# Altium schematic symbol library Connectors.SchLib: 70 symbols
Pins are listed as number, name and electrical type; pins without a type are passive.

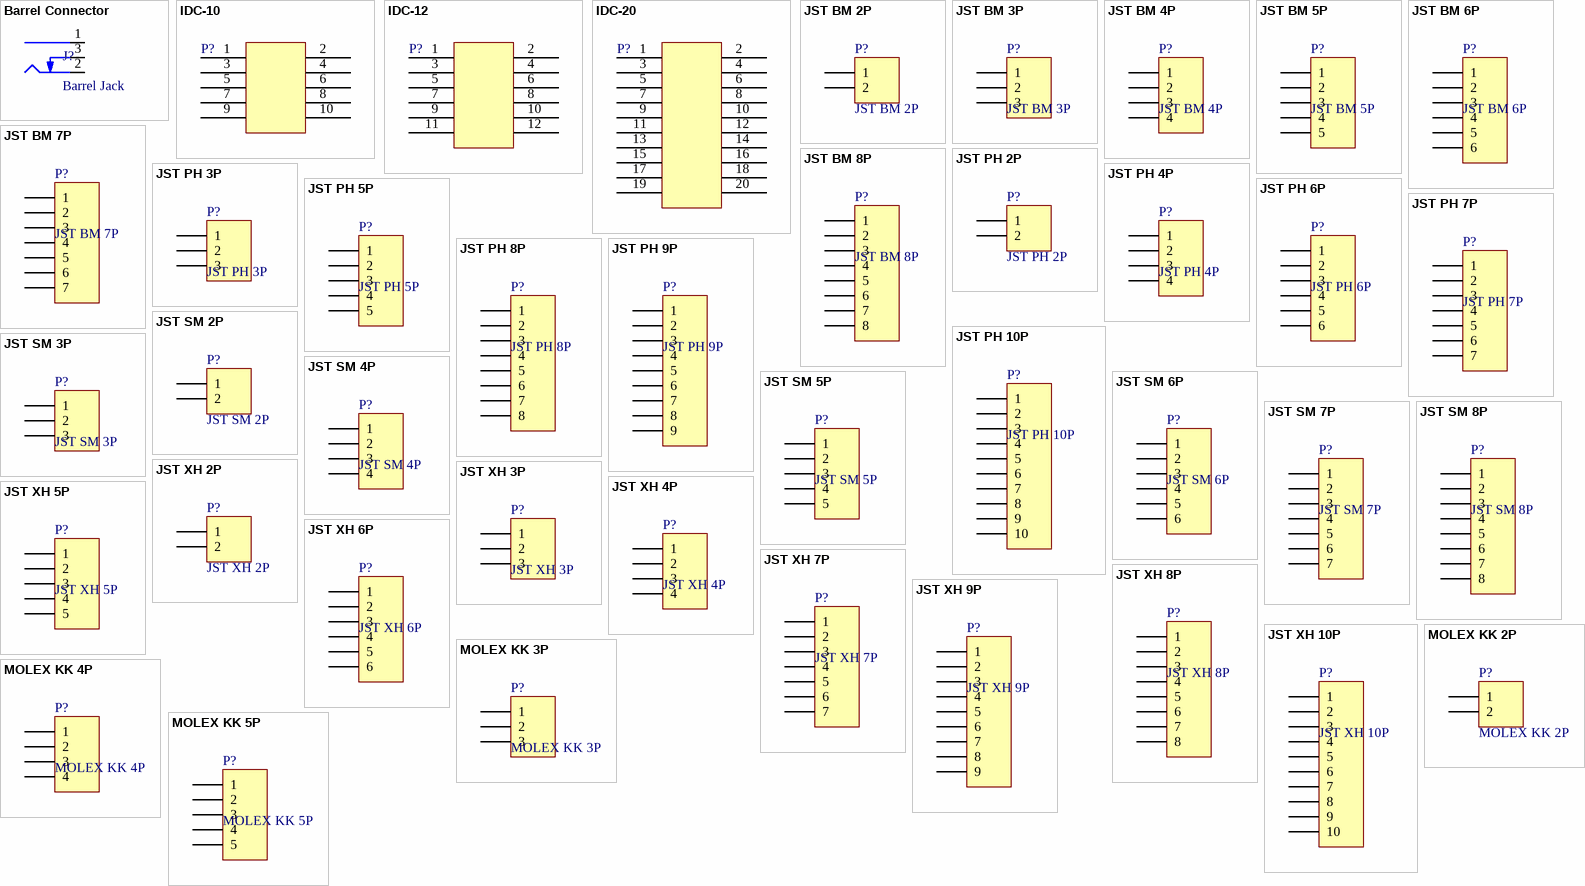
[diagram p0: symbols Barrel Connector to MOLEX KK 5P]

## Barrel Connector
designator J?, comment Barrel Jack
DC Barrel Jack W/ Switch 2.0x5.5
footprint CUI PJ-102AH (DC Barrel Jack W/ Switch 2.0x5.5)
pins: 1 Centre, 2 Outer, 3 SW

## IDC-10
designator P?  (value not drawn)
Double row pins
footprint IDC-10
signal-integrity model Connector
footprint IDC-10R
pins: 1 "5v", 2 "5v", 3 "Digital 22", 4 "Digital 23", 5 "Digital 24", 6 "Digital 25", 7 "Digital 26", 8 "Digital 27", 9 "Digital 28", 10 "Digital 29"

## IDC-12
designator P?  (value not drawn)
Double row pins
footprint IDC-12
signal-integrity model Connector
footprint IDC-12R
pins: 1 "5v", 2 "5v", 3 "Digital 22", 4 "Digital 23", 5 "Digital 24", 6 "Digital 25", 7 "Digital 26", 8 "Digital 27", 9 "Digital 28", 10 "Digital 29", 11 "Digital 30", 12 "Digital 31"

## IDC-20
designator P?  (value not drawn)
Double row pins
signal-integrity model Connector
footprint IDC-20
pins: 1 "5v", 2 "5v", 3 "Digital 22", 4 "Digital 23", 5 "Digital 24", 6 "Digital 25", 7 "Digital 26", 8 "Digital 27", 9 "Digital 28", 10 "Digital 29", 11 "Digital 30", 12 "Digital 31", 13 "Digital 32", 14 "Digital 33", 15 "Digital 34", 16 "Digital 35", 17 "Digital 36", 18 "Digital 37", 19 "Digital 38", 20 "Digital 39"

## JST BM 2P
designator P?
signal-integrity model Connector
footprint JST BM 2P (JST PA Series 2mm pitch, top entry connector)
pins: 1, 2

## JST BM 3P
designator P?
signal-integrity model Connector
footprint JST BM 3P (JST PA Series 2mm pitch, top entry connector)
pins: 1, 2, 3

## JST BM 4P
designator P?
signal-integrity model Connector
footprint JST BM 4P (JST PA Series 2mm pitch, top entry connector)
pins: 1, 2, 3, 4

## JST BM 5P
designator P?
signal-integrity model Connector
footprint JST BM 5P (JST PA Series 2mm pitch, top entry connector)
pins: 1, 2, 3, 4, 5

## JST BM 6P
designator P?
signal-integrity model Connector
footprint JST BM 6P (JST PA Series 2mm pitch, top entry connector)
pins: 1, 2, 3, 4, 5, 6

## JST BM 7P
designator P?
signal-integrity model Connector
footprint JST BM 7P (JST PA Series 2mm pitch, top entry connector)
pins: 1, 2, 3, 4, 5, 6, 7

## JST BM 8P
designator P?
signal-integrity model Connector
footprint JST BM 8P (JST PA Series 2mm pitch, top entry connector)
pins: 1, 2, 3, 4, 5, 6, 7, 8

## JST PH 2P
designator P?
signal-integrity model Connector
footprint JST PH 2P
pins: 1, 2

## JST PH 3P
designator P?
signal-integrity model Connector
footprint JST PH 3P
pins: 1, 2, 3

## JST PH 4P
designator P?
signal-integrity model Connector
footprint JST PH 4P
pins: 1, 2, 3, 4

## JST PH 5P
designator P?
signal-integrity model Connector
footprint JST PH 5P
pins: 1, 2, 3, 4, 5

## JST PH 6P
designator P?
signal-integrity model Connector
footprint JST PH 6P
pins: 1, 2, 3, 4, 5, 6

## JST PH 7P
designator P?
signal-integrity model Connector
footprint JST PH 7P
pins: 1, 2, 3, 4, 5, 6, 7

## JST PH 8P
designator P?
signal-integrity model Connector
footprint JST PH 8P
pins: 1, 2, 3, 4, 5, 6, 7, 8

## JST PH 9P
designator P?
signal-integrity model Connector
footprint JST PH 9P
pins: 1, 2, 3, 4, 5, 6, 7, 8, 9

## JST PH 10P
designator P?
signal-integrity model Connector
footprint JST PH 10P
pins: 1, 2, 3, 4, 5, 6, 7, 8, 9, 10

## JST SM 2P
designator P?
signal-integrity model Connector
footprint JST SM 2P (JST PA Series 2mm pitch, side entry connector)
pins: 1, 2

## JST SM 3P
designator P?
signal-integrity model Connector
footprint JST SM 3P (JST PA Series 2mm pitch, side entry connector)
pins: 1, 2, 3

## JST SM 4P
designator P?
signal-integrity model Connector
footprint JST SM 4P (JST PA Series 2mm pitch, side entry connector)
pins: 1, 2, 3, 4

## JST SM 5P
designator P?
signal-integrity model Connector
footprint JST SM 5P (JST PA Series 2mm pitch, side entry connector)
pins: 1, 2, 3, 4, 5

## JST SM 6P
designator P?
signal-integrity model Connector
footprint JST SM 6P (JST PA Series 2mm pitch, side entry connector)
pins: 1, 2, 3, 4, 5, 6

## JST SM 7P
designator P?
signal-integrity model Connector
footprint JST SM 7P (JST PA Series 2mm pitch, side entry connector)
pins: 1, 2, 3, 4, 5, 6, 7

## JST SM 8P
designator P?
signal-integrity model Connector
footprint JST SM 8P (JST PA Series 2mm pitch, side entry connector)
pins: 1, 2, 3, 4, 5, 6, 7, 8

## JST XH 2P
designator P?
signal-integrity model Connector
footprint JST XH 2P
pins: 1, 2

## JST XH 3P
designator P?
signal-integrity model Connector
footprint JST XH 3P
pins: 1, 2, 3

## JST XH 4P
designator P?
signal-integrity model Connector
footprint JST XH 4P
pins: 1, 2, 3, 4

## JST XH 5P
designator P?
signal-integrity model Connector
footprint JST XH 5P
pins: 1, 2, 3, 4, 5

## JST XH 6P
designator P?
signal-integrity model Connector
footprint JST XH 6P
pins: 1, 2, 3, 4, 5, 6

## JST XH 7P
designator P?
signal-integrity model Connector
footprint JST XH 7P
pins: 1, 2, 3, 4, 5, 6, 7

## JST XH 8P
designator P?
signal-integrity model Connector
footprint JST XH 8P
pins: 1, 2, 3, 4, 5, 6, 7, 8

## JST XH 9P
designator P?
signal-integrity model Connector
footprint JST XH 9P
pins: 1, 2, 3, 4, 5, 6, 7, 8, 9

## JST XH 10P
designator P?
signal-integrity model Connector
footprint JST XH 10P
pins: 1, 2, 3, 4, 5, 6, 7, 8, 9, 10

## MOLEX KK 2P
designator P?
signal-integrity model Connector
footprint MOLEX KK 2P
pins: 1, 2

## MOLEX KK 3P
designator P?
signal-integrity model Connector
footprint MOLEX KK 3P
pins: 1, 2, 3

## MOLEX KK 4P
designator P?
signal-integrity model Connector
footprint MOLEX KK 4P
pins: 1, 2, 3, 4

## MOLEX KK 5P
designator P?
signal-integrity model Connector
footprint MOLEX KK 5P
pins: 1, 2, 3, 4, 5

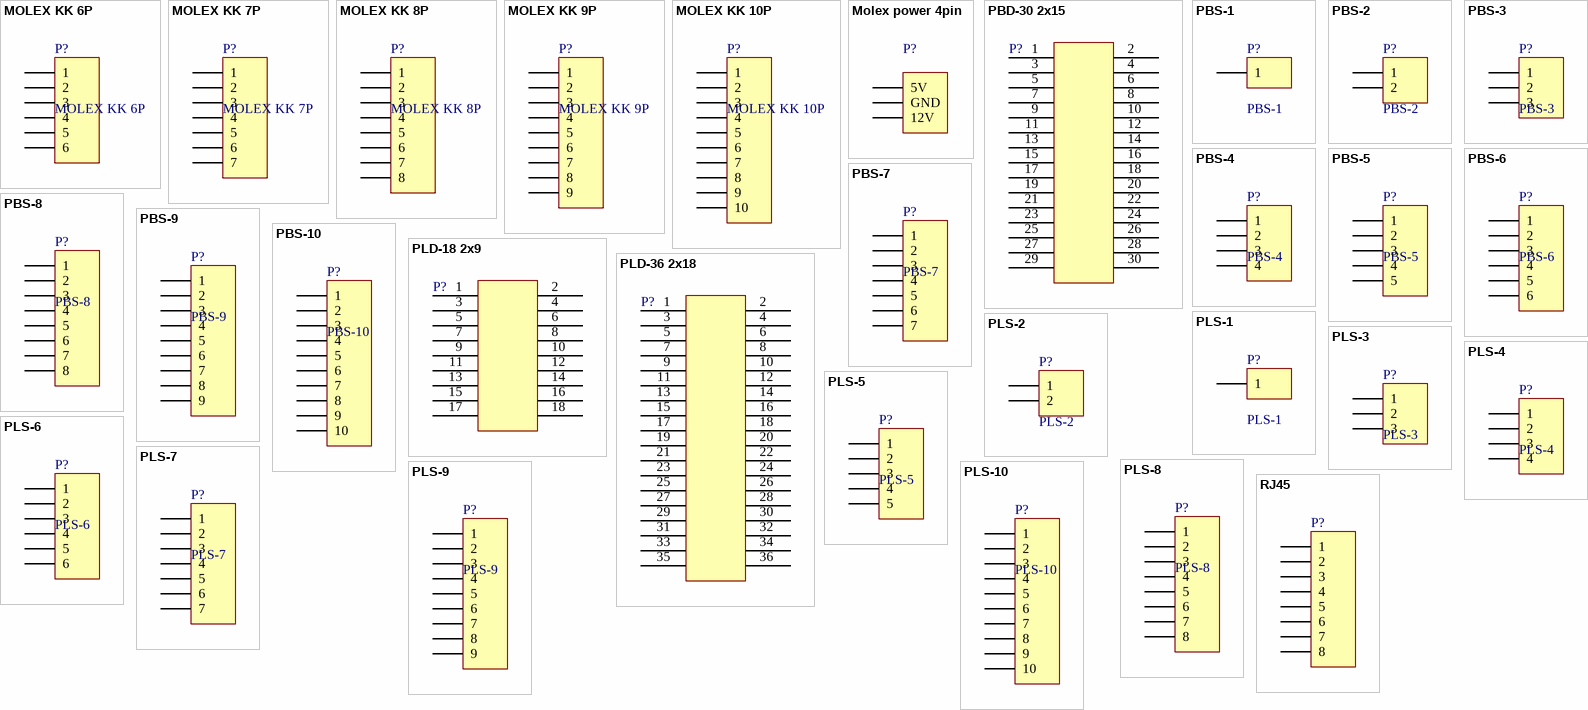
[diagram p1: symbols MOLEX KK 6P to RJ45]

## MOLEX KK 6P
designator P?
signal-integrity model Connector
footprint MOLEX KK 6P
pins: 1, 2, 3, 4, 5, 6

## MOLEX KK 7P
designator P?
signal-integrity model Connector
footprint MOLEX KK 7P
pins: 1, 2, 3, 4, 5, 6, 7

## MOLEX KK 8P
designator P?
signal-integrity model Connector
footprint MOLEX KK 8P
pins: 1, 2, 3, 4, 5, 6, 7, 8

## MOLEX KK 9P
designator P?
signal-integrity model Connector
footprint MOLEX KK 9P
pins: 1, 2, 3, 4, 5, 6, 7, 8, 9

## MOLEX KK 10P
designator P?
signal-integrity model Connector
footprint MOLEX KK 10P
pins: 1, 2, 3, 4, 5, 6, 7, 8, 9, 10

## Molex power 4pin
designator P?, comment Molex IDE power  (value not drawn)
from HDD
footprint molex 4pin
signal-integrity model Connector
pins: 5V, 12V, GND

## PBD-30 2x15
designator P?  (value not drawn)
Double row pins
signal-integrity model Connector
footprint PBD-30 2x15
pins: 1 "5v", 2 "5v", 3 "Digital 22", 4 "Digital 23", 5 "Digital 24", 6 "Digital 25", 7 "Digital 26", 8 "Digital 27", 9 "Digital 28", 10 "Digital 29", 11 "Digital 30", 12 "Digital 31", 13 "Digital 32", 14 "Digital 33", 15 "Digital 34", 16 "Digital 35", 17 "Digital 36", 18 "Digital 37", 19 "Digital 38", 20 "Digital 39", 21 "Digital 40", 22 "Digital 41", 23 "Digital 42", 24 "Digital 43", 25 "Digital 44", 26 "Digital 45", 27 "Digital 46", 28 "Digital 47", 29 "Digital 48", 30 "Digital 49"

## PBS-1
designator P?
Single row pins
signal-integrity model Connector
footprint PBS-1
pins: 1

## PBS-2
designator P?
Single row pins
signal-integrity model Connector
footprint PBS-2
pins: 1, 2

## PBS-3
designator P?
Single row pins
signal-integrity model Connector
footprint PBS-3
pins: 1, 2, 3

## PBS-4
designator P?
Single row pins
signal-integrity model Connector
footprint PBS-4 1x4
pins: 1, 2, 3, 4

## PBS-5
designator P?
Single row pins
signal-integrity model Connector
footprint PBS-5 1x5
pins: 1, 2, 3, 4, 5

## PBS-6
designator P?
Single row pins
signal-integrity model Connector
footprint PBS-6 1x6
pins: 1, 2, 3, 4, 5, 6

## PBS-7
designator P?
Single row pins
signal-integrity model Connector
footprint PBS-7 1x7
pins: 1, 2, 3, 4, 5, 6, 7

## PBS-8
designator P?
Single row pins
signal-integrity model Connector
footprint PBS-8 1x8
pins: 1, 2, 3, 4, 5, 6, 7, 8

## PBS-9
designator P?
Single row pins
signal-integrity model Connector
footprint PBS-9 1x9
pins: 1, 2, 3, 4, 5, 6, 7, 8, 9

## PBS-10
designator P?
Single row pins
signal-integrity model Connector
footprint PBS-10 1x10
pins: 1, 2, 3, 4, 5, 6, 7, 8, 9, 10

## PLD-18 2x9
designator P?  (value not drawn)
Double row pins
signal-integrity model Connector
footprint PLD-SMD 18 2x9
pins: 1 "5v", 2 "5v", 3 "Digital 22", 4 "Digital 23", 5 "Digital 24", 6 "Digital 25", 7 "Digital 26", 8 "Digital 27", 9 "Digital 28", 10 "Digital 29", 11 "Digital 30", 12 "Digital 31", 13 "Digital 32", 14 "Digital 33", 15 "Digital 34", 16 "Digital 35", 17 "Digital 36", 18 "Digital 37"

## PLD-36 2x18
designator P?  (value not drawn)
Double row pins
signal-integrity model Connector
footprint PLD-SMD 36 2x18
pins: 1 "5v", 2 "5v", 3 "Digital 22", 4 "Digital 23", 5 "Digital 24", 6 "Digital 25", 7 "Digital 26", 8 "Digital 27", 9 "Digital 28", 10 "Digital 29", 11 "Digital 30", 12 "Digital 31", 13 "Digital 32", 14 "Digital 33", 15 "Digital 34", 16 "Digital 35", 17 "Digital 36", 18 "Digital 37", 19 "Digital 38", 20 "Digital 39", 21 "Digital 40", 22 "Digital 41", 23 "Digital 42", 24 "Digital 43", 25 "Digital 44", 26 "Digital 45", 27 "Digital 46", 28 "Digital 47", 29 "Digital 48", 30 "Digital 49", 31 "Digital 50", 32 "Digital 51", 33 "Digital 52", 34 "Digital 53", 35 "0v", 36 "0v"

## PLS-1
designator P?
Single row pins
footprint PLS-1
signal-integrity model Connector
footprint PLS-1-R1
pins: 1

## PLS-2
designator P?
Single row pins
footprint PLS-2
signal-integrity model Connector
footprint PLS-2-R1
footprint PLS-SMD-2 1x2
pins: 1, 2

## PLS-3
designator P?
Single row pins
footprint PLS-3
signal-integrity model Connector
footprint PLS-3-R1
pins: 1, 2, 3

## PLS-4
designator P?
Single row pins
footprint PLS-4 1x4
signal-integrity model Connector
footprint PLS-4-R1 1x4
footprint PLS-SMD-4 1x4
pins: 1, 2, 3, 4

## PLS-5
designator P?
Single row pins
footprint PLS-5 1x5
signal-integrity model Connector
footprint PLS-5-R1 1x5
pins: 1, 2, 3, 4, 5

## PLS-6
designator P?
Single row pins
footprint PLS-6 1x6
signal-integrity model Connector
footprint PLS-6-R1 1x6
footprint PLS-SMD-6 1x6
pins: 1, 2, 3, 4, 5, 6

## PLS-7
designator P?
Single row pins
footprint PLS-7 1x7
signal-integrity model Connector
footprint PLS-7-R1 1x7
pins: 1, 2, 3, 4, 5, 6, 7

## PLS-8
designator P?
Single row pins
footprint PLS-8 1x8
signal-integrity model Connector
footprint PLS-8-R1 1x8
footprint PLS-SMD-8 1x8
pins: 1, 2, 3, 4, 5, 6, 7, 8

## PLS-9
designator P?
Single row pins
footprint PLS-9 1x9
signal-integrity model Connector
footprint PLS-9-R1 1x9
pins: 1, 2, 3, 4, 5, 6, 7, 8, 9

## PLS-10
designator P?
Single row pins
footprint PLS-10 1x10
signal-integrity model Connector
footprint PLS-10-R1 1x10
footprint PLS-SMD-10 1x10
pins: 1, 2, 3, 4, 5, 6, 7, 8, 9, 10

## RJ45
designator P?  (value not drawn)
Ethernet
footprint RJ-45 socket (YH-55-05)
signal-integrity model Connector
pins: 1, 2, 3, 4, 5, 6, 7, 8